# EAGLE library part TEN-6-1211 (library 000001)
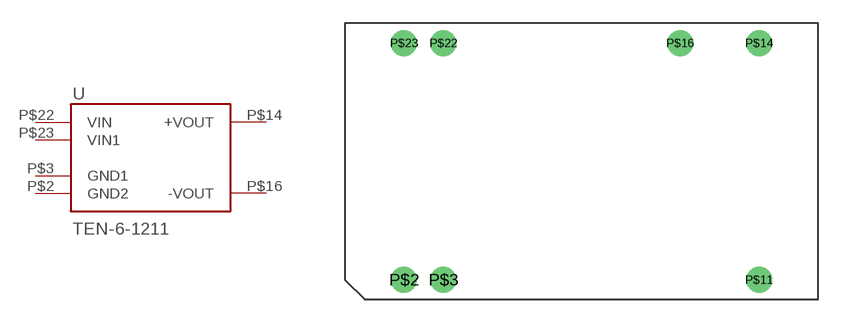
[diagram p117: symbol with the pads of TEN6; footprint TEN6]

Designator prefix -

## TEN-6-1211  [TEN6]
P$2  GND2  pwr
P$3  GND1  pwr
P$14  +VOUT  pwr
P$16  -VOUT  pwr
P$22  VIN  pwr
P$23  VIN1  pwr

## Footprint TEN6 (pad centres in mm)
drill 0.5 pad 1.676 round: P$2 -11.43,-7.62; P$3 -8.89,-7.62; P$11 11.43,-7.62; P$14 11.43,7.62; P$16 6.35,7.62; P$22 -8.89,7.62; P$23 -11.43,7.62